# Altium footprint library Capacitor_THT.PcbLib: 378 footprints (part 12 of 24)
Each footprint in its own frame and in the unit in brackets; x right, y up, seen from the top. Pads: shape width x height; smd on the part's side, far side on the other; paste and mask are expansions set on the pad; w line width, h text height; cw(c..) or ccw(c..) is an arc to the next point about the centre after c.
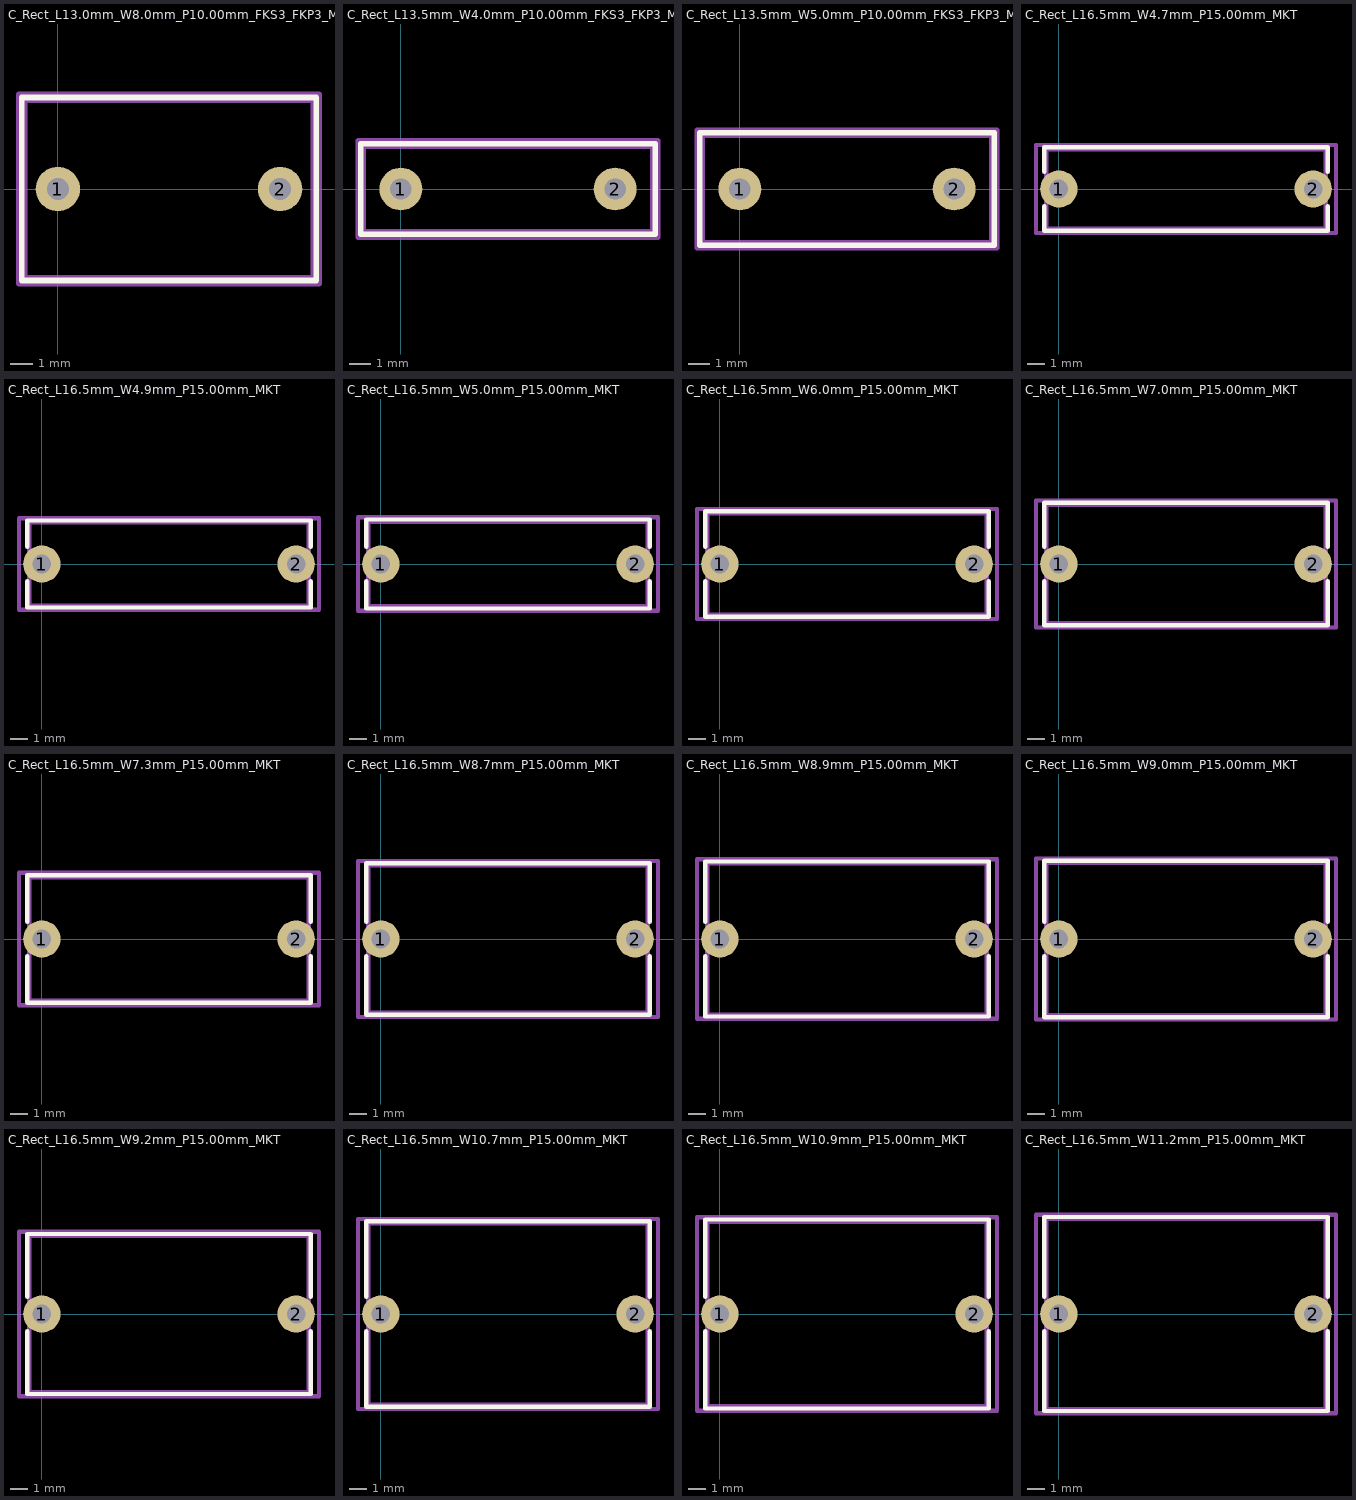
[diagram p11: the footprints below, top view; thin cyan lines are the x and y axes]

## C_Rect_L13.0mm_W8.0mm_P10.00mm_FKS3_FKP3_MKS4 [mm] "C_Rect_L13.0mm_W8.0mm_P10.00mm_FKS3_FKP3_MKS4"
pads (2):
  round 2 hole 1: 1(0,0) 2(10,0)
F.SilkS:
  lines w0.254: -1.62,-4.12 11.62,-4.12 11.62,4.12 -1.62,4.12 -1.62,-4.12
Top Component Center:
  lines w0.127: -0.127,0 0.127,0 ; 0,-0.127 0,0.127
Top Assembly:
  lines w0.254: -1.5,-4 11.5,-4 11.5,4 -1.5,4 -1.5,-4
Top Courtyard:
  lines w0.254: -1.75,-4.25 11.75,-4.25 11.75,4.25 -1.75,4.25 -1.75,-4.25
Top Designator:
  text ".Designator" at 1.566,-0.345 h1.52
3D body "C_Rect_L13.0mm_W8.0mm_P10.00mm_FKS3_FKP3_MKS4.step": height 10, standoff -1.9, extent -1.5,-4 11.5,4

## C_Rect_L13.5mm_W4.0mm_P10.00mm_FKS3_FKP3_MKS4 [mm] "C_Rect_L13.5mm_W4.0mm_P10.00mm_FKS3_FKP3_MKS4"
pads (2):
  round 2 hole 1: 1(0,0) 2(10,0)
F.SilkS:
  lines w0.254: -1.87,-2.12 11.87,-2.12 11.87,2.12 -1.87,2.12 -1.87,-2.12
Top Component Center:
  lines w0.127: -0.127,0 0.127,0 ; 0,-0.127 0,0.127
Top Assembly:
  lines w0.254: -1.75,-2 11.75,-2 11.75,2 -1.75,2 -1.75,-2
Top Courtyard:
  lines w0.254: -2,-2.25 12,-2.25 12,2.25 -2,2.25 -2,-2.25
Top Designator:
  text ".Designator" at 1.566,-0.345 h1.52
3D body "C_Rect_L13.5mm_W4.0mm_P10.00mm_FKS3_FKP3_MKS4.step": height 10, standoff -1.9, extent -1.75,-2 11.75,2

## C_Rect_L13.5mm_W5.0mm_P10.00mm_FKS3_FKP3_MKS4 [mm] "C_Rect_L13.5mm_W5.0mm_P10.00mm_FKS3_FKP3_MKS4"
pads (2):
  round 2 hole 1: 1(0,0) 2(10,0)
F.SilkS:
  lines w0.254: -1.87,-2.62 11.87,-2.62 11.87,2.62 -1.87,2.62 -1.87,-2.62
Top Component Center:
  lines w0.127: -0.127,0 0.127,0 ; 0,-0.127 0,0.127
Top Assembly:
  lines w0.254: -1.75,-2.5 11.75,-2.5 11.75,2.5 -1.75,2.5 -1.75,-2.5
Top Courtyard:
  lines w0.254: -2,-2.75 12,-2.75 12,2.75 -2,2.75 -2,-2.75
Top Designator:
  text ".Designator" at 1.566,-0.345 h1.52
3D body "C_Rect_L13.5mm_W5.0mm_P10.00mm_FKS3_FKP3_MKS4.step": height 10, standoff -1.9, extent -1.75,-2.5 11.75,2.5

## C_Rect_L16.5mm_W4.7mm_P15.00mm_MKT [mm] "C_Rect_L16.5mm_W4.7mm_P15.00mm_MKT"
pads (2):
  round 2.2 hole 1.1: 1(0,0) 2(15,0)
F.SilkS:
  lines w0.254: -0.87,-1.019 -0.87,-2.47 15.87,-2.47 15.87,-1.019 ; -0.87,1.019 -0.87,2.47 15.87,2.47 15.87,1.019
Top Component Center:
  lines w0.127: -0.127,0 0.127,0 ; 0,-0.127 0,0.127
Top Assembly:
  lines w0.254: -0.75,-2.35 15.75,-2.35 15.75,2.35 -0.75,2.35 -0.75,-2.35
Top Courtyard:
  lines w0.254: -1.35,-2.6 16.35,-2.6 16.35,2.6 -1.35,2.6 -1.35,-2.6
Top Designator:
  text ".Designator" at 4.066,-0.345 h1.52
3D body "C_Rect_L16.5mm_W4.7mm_P15.00mm_MKT.step": height 14, standoff -1.9, extent -0.4,-2.35 15.4,2.35

## C_Rect_L16.5mm_W4.9mm_P15.00mm_MKT [mm] "C_Rect_L16.5mm_W4.9mm_P15.00mm_MKT"
pads (2):
  round 2.2 hole 1.1: 1(0,0) 2(15,0)
F.SilkS:
  lines w0.254: -0.87,-1.019 -0.87,-2.57 15.87,-2.57 15.87,-1.019 ; -0.87,1.019 -0.87,2.57 15.87,2.57 15.87,1.019
Top Component Center:
  lines w0.127: -0.127,0 0.127,0 ; 0,-0.127 0,0.127
Top Assembly:
  lines w0.254: -0.75,-2.45 15.75,-2.45 15.75,2.45 -0.75,2.45 -0.75,-2.45
Top Courtyard:
  lines w0.254: -1.35,-2.7 16.35,-2.7 16.35,2.7 -1.35,2.7 -1.35,-2.7
Top Designator:
  text ".Designator" at 4.066,-0.345 h1.52
3D body "C_Rect_L16.5mm_W4.9mm_P15.00mm_MKT.step": height 14, standoff -1.9, extent -0.4,-2.45 15.4,2.45

## C_Rect_L16.5mm_W5.0mm_P15.00mm_MKT [mm] "C_Rect_L16.5mm_W5.0mm_P15.00mm_MKT"
pads (2):
  round 2.2 hole 1.1: 1(0,0) 2(15,0)
F.SilkS:
  lines w0.254: -0.87,-1.019 -0.87,-2.62 15.87,-2.62 15.87,-1.019 ; -0.87,1.019 -0.87,2.62 15.87,2.62 15.87,1.019
Top Component Center:
  lines w0.127: -0.127,0 0.127,0 ; 0,-0.127 0,0.127
Top Assembly:
  lines w0.254: -0.75,-2.5 15.75,-2.5 15.75,2.5 -0.75,2.5 -0.75,-2.5
Top Courtyard:
  lines w0.254: -1.35,-2.75 16.35,-2.75 16.35,2.75 -1.35,2.75 -1.35,-2.75
Top Designator:
  text ".Designator" at 4.066,-0.345 h1.52
3D body "C_Rect_L16.5mm_W5.0mm_P15.00mm_MKT.step": height 14, standoff -1.9, extent -0.4,-2.5 15.4,2.5

## C_Rect_L16.5mm_W6.0mm_P15.00mm_MKT [mm] "C_Rect_L16.5mm_W6.0mm_P15.00mm_MKT"
pads (2):
  round 2.2 hole 1.1: 1(0,0) 2(15,0)
F.SilkS:
  lines w0.254: -0.87,-1.019 -0.87,-3.12 15.87,-3.12 15.87,-1.019 ; -0.87,1.019 -0.87,3.12 15.87,3.12 15.87,1.019
Top Component Center:
  lines w0.127: -0.127,0 0.127,0 ; 0,-0.127 0,0.127
Top Assembly:
  lines w0.254: -0.75,-3 15.75,-3 15.75,3 -0.75,3 -0.75,-3
Top Courtyard:
  lines w0.254: -1.35,-3.25 16.35,-3.25 16.35,3.25 -1.35,3.25 -1.35,-3.25
Top Designator:
  text ".Designator" at 4.066,-0.345 h1.52
3D body "C_Rect_L16.5mm_W6.0mm_P15.00mm_MKT.step": height 14, standoff -1.9, extent -0.4,-3 15.4,3

## C_Rect_L16.5mm_W7.0mm_P15.00mm_MKT [mm] "C_Rect_L16.5mm_W7.0mm_P15.00mm_MKT"
pads (2):
  round 2.2 hole 1.1: 1(0,0) 2(15,0)
F.SilkS:
  lines w0.254: -0.87,-1.019 -0.87,-3.62 15.87,-3.62 15.87,-1.019 ; -0.87,1.019 -0.87,3.62 15.87,3.62 15.87,1.019
Top Component Center:
  lines w0.127: -0.127,0 0.127,0 ; 0,-0.127 0,0.127
Top Assembly:
  lines w0.254: -0.75,-3.5 15.75,-3.5 15.75,3.5 -0.75,3.5 -0.75,-3.5
Top Courtyard:
  lines w0.254: -1.35,-3.75 16.35,-3.75 16.35,3.75 -1.35,3.75 -1.35,-3.75
Top Designator:
  text ".Designator" at 4.066,-0.345 h1.52
3D body "C_Rect_L16.5mm_W7.0mm_P15.00mm_MKT.step": height 14, standoff -1.9, extent -0.4,-3.5 15.4,3.5

## C_Rect_L16.5mm_W7.3mm_P15.00mm_MKT [mm] "C_Rect_L16.5mm_W7.3mm_P15.00mm_MKT"
pads (2):
  round 2.2 hole 1.1: 1(0,0) 2(15,0)
F.SilkS:
  lines w0.254: -0.87,-1.019 -0.87,-3.77 15.87,-3.77 15.87,-1.019 ; -0.87,1.019 -0.87,3.77 15.87,3.77 15.87,1.019
Top Component Center:
  lines w0.127: -0.127,0 0.127,0 ; 0,-0.127 0,0.127
Top Assembly:
  lines w0.254: -0.75,-3.65 15.75,-3.65 15.75,3.65 -0.75,3.65 -0.75,-3.65
Top Courtyard:
  lines w0.254: -1.35,-3.9 16.35,-3.9 16.35,3.9 -1.35,3.9 -1.35,-3.9
Top Designator:
  text ".Designator" at 4.066,-0.345 h1.52
3D body "C_Rect_L16.5mm_W7.3mm_P15.00mm_MKT.step": height 14, standoff -1.9, extent -0.4,-3.65 15.4,3.65

## C_Rect_L16.5mm_W8.7mm_P15.00mm_MKT [mm] "C_Rect_L16.5mm_W8.7mm_P15.00mm_MKT"
pads (2):
  round 2.2 hole 1.1: 1(0,0) 2(15,0)
F.SilkS:
  lines w0.254: -0.87,-1.019 -0.87,-4.47 15.87,-4.47 15.87,-1.019 ; -0.87,1.019 -0.87,4.47 15.87,4.47 15.87,1.019
Top Component Center:
  lines w0.127: -0.127,0 0.127,0 ; 0,-0.127 0,0.127
Top Assembly:
  lines w0.254: -0.75,-4.35 15.75,-4.35 15.75,4.35 -0.75,4.35 -0.75,-4.35
Top Courtyard:
  lines w0.254: -1.35,-4.6 16.35,-4.6 16.35,4.6 -1.35,4.6 -1.35,-4.6
Top Designator:
  text ".Designator" at 4.066,-0.345 h1.52
3D body "C_Rect_L16.5mm_W8.7mm_P15.00mm_MKT.step": height 14, standoff -1.9, extent -0.4,-4.35 15.4,4.35

## C_Rect_L16.5mm_W8.9mm_P15.00mm_MKT [mm] "C_Rect_L16.5mm_W8.9mm_P15.00mm_MKT"
pads (2):
  round 2.2 hole 1.1: 1(0,0) 2(15,0)
F.SilkS:
  lines w0.254: -0.87,-1.019 -0.87,-4.57 15.87,-4.57 15.87,-1.019 ; -0.87,1.019 -0.87,4.57 15.87,4.57 15.87,1.019
Top Component Center:
  lines w0.127: -0.127,0 0.127,0 ; 0,-0.127 0,0.127
Top Assembly:
  lines w0.254: -0.75,-4.45 15.75,-4.45 15.75,4.45 -0.75,4.45 -0.75,-4.45
Top Courtyard:
  lines w0.254: -1.35,-4.7 16.35,-4.7 16.35,4.7 -1.35,4.7 -1.35,-4.7
Top Designator:
  text ".Designator" at 4.066,-0.345 h1.52
3D body "C_Rect_L16.5mm_W8.9mm_P15.00mm_MKT.step": height 14, standoff -1.9, extent -0.4,-4.45 15.4,4.45

## C_Rect_L16.5mm_W9.0mm_P15.00mm_MKT [mm] "C_Rect_L16.5mm_W9.0mm_P15.00mm_MKT"
pads (2):
  round 2.2 hole 1.1: 1(0,0) 2(15,0)
F.SilkS:
  lines w0.254: -0.87,-1.019 -0.87,-4.62 15.87,-4.62 15.87,-1.019 ; -0.87,1.019 -0.87,4.62 15.87,4.62 15.87,1.019
Top Component Center:
  lines w0.127: -0.127,0 0.127,0 ; 0,-0.127 0,0.127
Top Assembly:
  lines w0.254: -0.75,-4.5 15.75,-4.5 15.75,4.5 -0.75,4.5 -0.75,-4.5
Top Courtyard:
  lines w0.254: -1.35,-4.75 16.35,-4.75 16.35,4.75 -1.35,4.75 -1.35,-4.75
Top Designator:
  text ".Designator" at 4.066,-0.345 h1.52
3D body "C_Rect_L16.5mm_W9.0mm_P15.00mm_MKT.step": height 14, standoff -1.9, extent -0.4,-4.5 15.4,4.5

## C_Rect_L16.5mm_W9.2mm_P15.00mm_MKT [mm] "C_Rect_L16.5mm_W9.2mm_P15.00mm_MKT"
pads (2):
  round 2.2 hole 1.1: 1(0,0) 2(15,0)
F.SilkS:
  lines w0.254: -0.87,-1.019 -0.87,-4.72 15.87,-4.72 15.87,-1.019 ; -0.87,1.019 -0.87,4.72 15.87,4.72 15.87,1.019
Top Component Center:
  lines w0.127: -0.127,0 0.127,0 ; 0,-0.127 0,0.127
Top Assembly:
  lines w0.254: -0.75,-4.6 15.75,-4.6 15.75,4.6 -0.75,4.6 -0.75,-4.6
Top Courtyard:
  lines w0.254: -1.35,-4.85 16.35,-4.85 16.35,4.85 -1.35,4.85 -1.35,-4.85
Top Designator:
  text ".Designator" at 4.066,-0.345 h1.52
3D body "C_Rect_L16.5mm_W9.2mm_P15.00mm_MKT.step": height 14, standoff -1.9, extent -0.4,-4.6 15.4,4.6

## C_Rect_L16.5mm_W10.7mm_P15.00mm_MKT [mm] "C_Rect_L16.5mm_W10.7mm_P15.00mm_MKT"
pads (2):
  round 2.2 hole 1.1: 1(0,0) 2(15,0)
F.SilkS:
  lines w0.254: -0.87,-1.019 -0.87,-5.47 15.87,-5.47 15.87,-1.019 ; -0.87,1.019 -0.87,5.47 15.87,5.47 15.87,1.019
Top Component Center:
  lines w0.127: -0.127,0 0.127,0 ; 0,-0.127 0,0.127
Top Assembly:
  lines w0.254: -0.75,-5.35 -0.75,5.35 15.75,5.35 15.75,-5.35 -0.75,-5.35
Top Courtyard:
  lines w0.254: -1.35,-5.6 -1.35,5.6 16.35,5.6 16.35,-5.6 -1.35,-5.6
Top Designator:
  text ".Designator" at 4.066,-0.345 h1.52
3D body "C_Rect_L16.5mm_W10.7mm_P15.00mm_MKT.step": height 14, standoff -1.9, extent -0.4,-5.35 15.4,5.35

## C_Rect_L16.5mm_W10.9mm_P15.00mm_MKT [mm] "C_Rect_L16.5mm_W10.9mm_P15.00mm_MKT"
pads (2):
  round 2.2 hole 1.1: 1(0,0) 2(15,0)
F.SilkS:
  lines w0.254: -0.87,-1.019 -0.87,-5.57 15.87,-5.57 15.87,-1.019 ; -0.87,1.019 -0.87,5.57 15.87,5.57 15.87,1.019
Top Component Center:
  lines w0.127: -0.127,0 0.127,0 ; 0,-0.127 0,0.127
Top Assembly:
  lines w0.254: -0.75,-5.45 15.75,-5.45 15.75,5.45 -0.75,5.45 -0.75,-5.45
Top Courtyard:
  lines w0.254: -1.35,-5.7 16.35,-5.7 16.35,5.7 -1.35,5.7 -1.35,-5.7
Top Designator:
  text ".Designator" at 4.066,-0.345 h1.52
3D body "C_Rect_L16.5mm_W10.9mm_P15.00mm_MKT.step": height 14, standoff -1.9, extent -0.4,-5.45 15.4,5.45

## C_Rect_L16.5mm_W11.2mm_P15.00mm_MKT [mm] "C_Rect_L16.5mm_W11.2mm_P15.00mm_MKT"
pads (2):
  round 2.2 hole 1.1: 1(0,0) 2(15,0)
F.SilkS:
  lines w0.254: -0.87,-1.019 -0.87,-5.72 15.87,-5.72 15.87,-1.019 ; -0.87,1.019 -0.87,5.72 15.87,5.72 15.87,1.019
Top Component Center:
  lines w0.127: -0.127,0 0.127,0 ; 0,-0.127 0,0.127
Top Assembly:
  lines w0.254: -0.75,-5.6 15.75,-5.6 15.75,5.6 -0.75,5.6 -0.75,-5.6
Top Courtyard:
  lines w0.254: -1.35,-5.85 16.35,-5.85 16.35,5.85 -1.35,5.85 -1.35,-5.85
Top Designator:
  text ".Designator" at 4.066,-0.345 h1.52
3D body "C_Rect_L16.5mm_W11.2mm_P15.00mm_MKT.step": height 14, standoff -1.9, extent -0.4,-5.6 15.4,5.6